# EAGLE library part STM32L4P5CEU6 (library STM32L4P5xx)
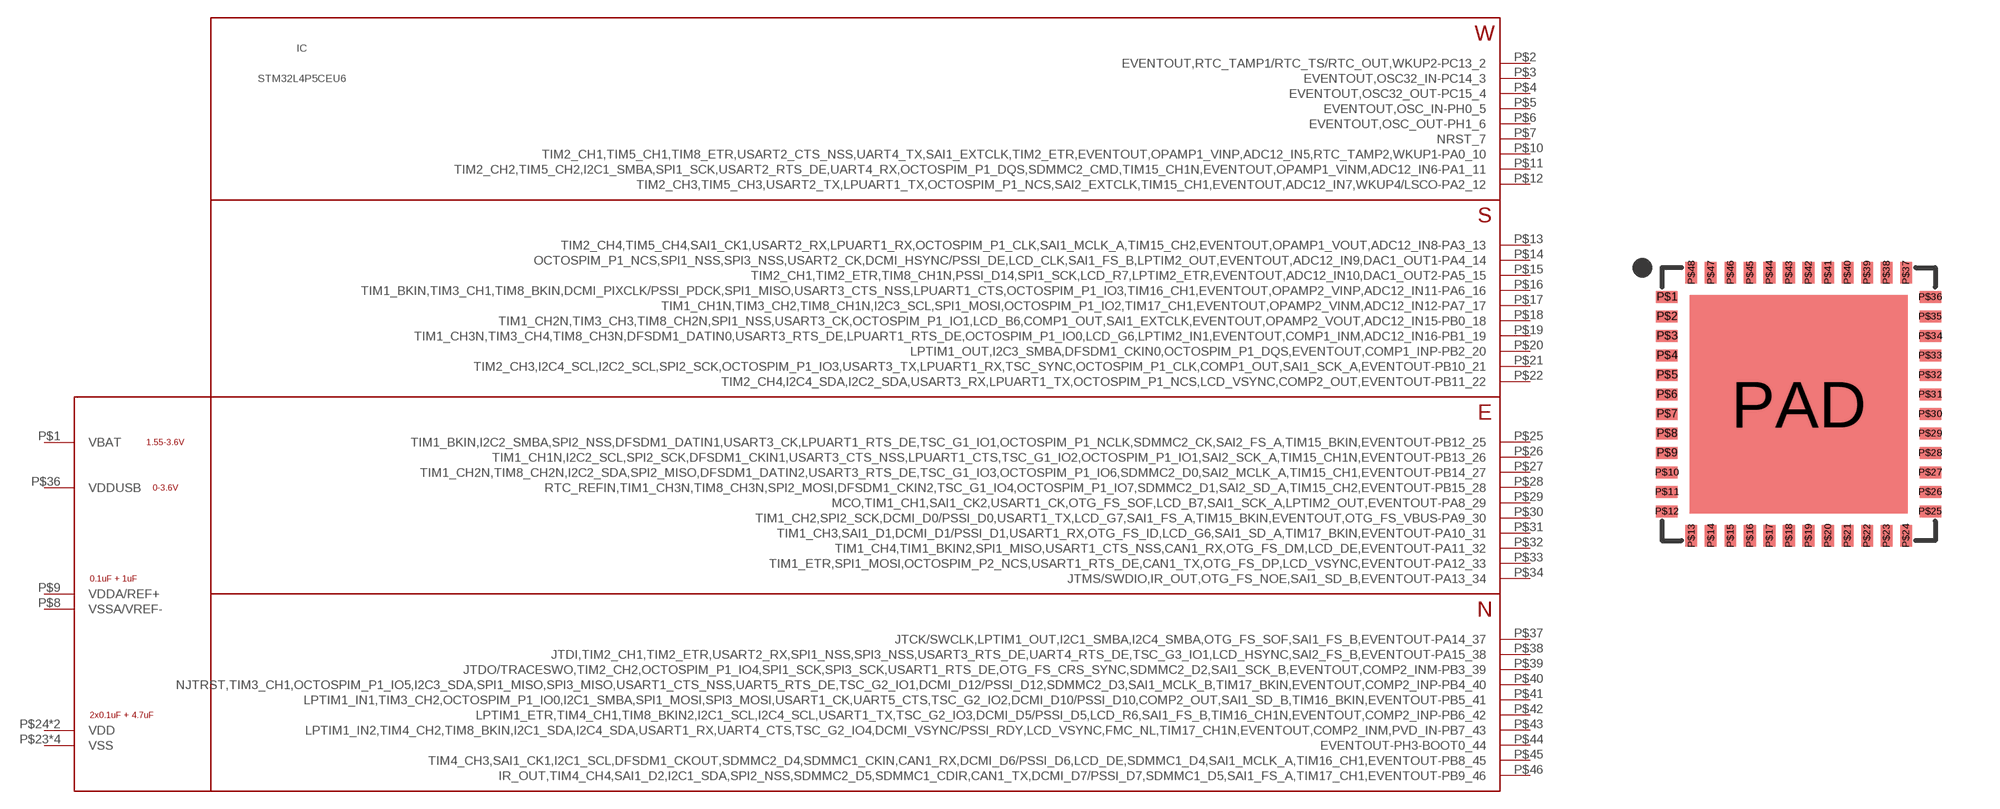
[diagram p0: symbol with the pads of UFQFPN48; footprint UFQFPN48]

Designator prefix IC

## STM32L4P5CEU6  [UFQFPN48]
P$1  VBAT  pwr
P$2  EVENTOUT,RTC_TAMP1/RTC_TS/RTC_OUT,WKUP2-PC13_2
P$3  EVENTOUT,OSC32_IN-PC14_3
P$4  EVENTOUT,OSC32_OUT-PC15_4
P$5  EVENTOUT,OSC_IN-PH0_5
P$6  EVENTOUT,OSC_OUT-PH1_6
P$7  NRST_7  in
P$8  VSSA/VREF-  pwr
P$9  VDDA/REF+  pwr
P$10  TIM2_CH1,TIM5_CH1,TIM8_ETR,USART2_CTS_NSS,UART4_TX,SAI1_EXTCLK,TIM2_ETR,EVENTOUT,OPAMP1_VINP,ADC12_IN5,RTC_TAMP2,WKUP1-PA0_10
P$11  TIM2_CH2,TIM5_CH2,I2C1_SMBA,SPI1_SCK,USART2_RTS_DE,UART4_RX,OCTOSPIM_P1_DQS,SDMMC2_CMD,TIM15_CH1N,EVENTOUT,OPAMP1_VINM,ADC12_IN6-PA1_11
P$12  TIM2_CH3,TIM5_CH3,USART2_TX,LPUART1_TX,OCTOSPIM_P1_NCS,SAI2_EXTCLK,TIM15_CH1,EVENTOUT,ADC12_IN7,WKUP4/LSCO-PA2_12
P$13  TIM2_CH4,TIM5_CH4,SAI1_CK1,USART2_RX,LPUART1_RX,OCTOSPIM_P1_CLK,SAI1_MCLK_A,TIM15_CH2,EVENTOUT,OPAMP1_VOUT,ADC12_IN8-PA3_13
P$14  OCTOSPIM_P1_NCS,SPI1_NSS,SPI3_NSS,USART2_CK,DCMI_HSYNC/PSSI_DE,LCD_CLK,SAI1_FS_B,LPTIM2_OUT,EVENTOUT,ADC12_IN9,DAC1_OUT1-PA4_14
P$15  TIM2_CH1,TIM2_ETR,TIM8_CH1N,PSSI_D14,SPI1_SCK,LCD_R7,LPTIM2_ETR,EVENTOUT,ADC12_IN10,DAC1_OUT2-PA5_15
P$16  TIM1_BKIN,TIM3_CH1,TIM8_BKIN,DCMI_PIXCLK/PSSI_PDCK,SPI1_MISO,USART3_CTS_NSS,LPUART1_CTS,OCTOSPIM_P1_IO3,TIM16_CH1,EVENTOUT,OPAMP2_VINP,ADC12_IN11-PA6_16
P$17  TIM1_CH1N,TIM3_CH2,TIM8_CH1N,I2C3_SCL,SPI1_MOSI,OCTOSPIM_P1_IO2,TIM17_CH1,EVENTOUT,OPAMP2_VINM,ADC12_IN12-PA7_17
P$18  TIM1_CH2N,TIM3_CH3,TIM8_CH2N,SPI1_NSS,USART3_CK,OCTOSPIM_P1_IO1,LCD_B6,COMP1_OUT,SAI1_EXTCLK,EVENTOUT,OPAMP2_VOUT,ADC12_IN15-PB0_18
P$19  TIM1_CH3N,TIM3_CH4,TIM8_CH3N,DFSDM1_DATIN0,USART3_RTS_DE,LPUART1_RTS_DE,OCTOSPIM_P1_IO0,LCD_G6,LPTIM2_IN1,EVENTOUT,COMP1_INM,ADC12_IN16-PB1_19
P$20  LPTIM1_OUT,I2C3_SMBA,DFSDM1_CKIN0,OCTOSPIM_P1_DQS,EVENTOUT,COMP1_INP-PB2_20
P$21  TIM2_CH3,I2C4_SCL,I2C2_SCL,SPI2_SCK,OCTOSPIM_P1_IO3,USART3_TX,LPUART1_RX,TSC_SYNC,OCTOSPIM_P1_CLK,COMP1_OUT,SAI1_SCK_A,EVENTOUT-PB10_21
P$22  TIM2_CH4,I2C4_SDA,I2C2_SDA,USART3_RX,LPUART1_TX,OCTOSPIM_P1_NCS,LCD_VSYNC,COMP2_OUT,EVENTOUT-PB11_22
P$23  VSS  pwr
P$24  VDD  pwr
P$25  TIM1_BKIN,I2C2_SMBA,SPI2_NSS,DFSDM1_DATIN1,USART3_CK,LPUART1_RTS_DE,TSC_G1_IO1,OCTOSPIM_P1_NCLK,SDMMC2_CK,SAI2_FS_A,TIM15_BKIN,EVENTOUT-PB12_25
P$26  TIM1_CH1N,I2C2_SCL,SPI2_SCK,DFSDM1_CKIN1,USART3_CTS_NSS,LPUART1_CTS,TSC_G1_IO2,OCTOSPIM_P1_IO1,SAI2_SCK_A,TIM15_CH1N,EVENTOUT-PB13_26
P$27  TIM1_CH2N,TIM8_CH2N,I2C2_SDA,SPI2_MISO,DFSDM1_DATIN2,USART3_RTS_DE,TSC_G1_IO3,OCTOSPIM_P1_IO6,SDMMC2_D0,SAI2_MCLK_A,TIM15_CH1,EVENTOUT-PB14_27
P$28  RTC_REFIN,TIM1_CH3N,TIM8_CH3N,SPI2_MOSI,DFSDM1_CKIN2,TSC_G1_IO4,OCTOSPIM_P1_IO7,SDMMC2_D1,SAI2_SD_A,TIM15_CH2,EVENTOUT-PB15_28
P$29  MCO,TIM1_CH1,SAI1_CK2,USART1_CK,OTG_FS_SOF,LCD_B7,SAI1_SCK_A,LPTIM2_OUT,EVENTOUT-PA8_29
P$30  TIM1_CH2,SPI2_SCK,DCMI_D0/PSSI_D0,USART1_TX,LCD_G7,SAI1_FS_A,TIM15_BKIN,EVENTOUT,OTG_FS_VBUS-PA9_30
P$31  TIM1_CH3,SAI1_D1,DCMI_D1/PSSI_D1,USART1_RX,OTG_FS_ID,LCD_G6,SAI1_SD_A,TIM17_BKIN,EVENTOUT-PA10_31
P$32  TIM1_CH4,TIM1_BKIN2,SPI1_MISO,USART1_CTS_NSS,CAN1_RX,OTG_FS_DM,LCD_DE,EVENTOUT-PA11_32
P$33  TIM1_ETR,SPI1_MOSI,OCTOSPIM_P2_NCS,USART1_RTS_DE,CAN1_TX,OTG_FS_DP,LCD_VSYNC,EVENTOUT-PA12_33
P$34  JTMS/SWDIO,IR_OUT,OTG_FS_NOE,SAI1_SD_B,EVENTOUT-PA13_34
P$35  VSS  pwr
P$36  VDDUSB  pwr
P$37  JTCK/SWCLK,LPTIM1_OUT,I2C1_SMBA,I2C4_SMBA,OTG_FS_SOF,SAI1_FS_B,EVENTOUT-PA14_37
P$38  JTDI,TIM2_CH1,TIM2_ETR,USART2_RX,SPI1_NSS,SPI3_NSS,USART3_RTS_DE,UART4_RTS_DE,TSC_G3_IO1,LCD_HSYNC,SAI2_FS_B,EVENTOUT-PA15_38
P$39  JTDO/TRACESWO,TIM2_CH2,OCTOSPIM_P1_IO4,SPI1_SCK,SPI3_SCK,USART1_RTS_DE,OTG_FS_CRS_SYNC,SDMMC2_D2,SAI1_SCK_B,EVENTOUT,COMP2_INM-PB3_39
P$40  NJTRST,TIM3_CH1,OCTOSPIM_P1_IO5,I2C3_SDA,SPI1_MISO,SPI3_MISO,USART1_CTS_NSS,UART5_RTS_DE,TSC_G2_IO1,DCMI_D12/PSSI_D12,SDMMC2_D3,SAI1_MCLK_B,TIM17_BKIN,EVENTOUT,COMP2_INP-PB4_40
P$41  LPTIM1_IN1,TIM3_CH2,OCTOSPIM_P1_IO0,I2C1_SMBA,SPI1_MOSI,SPI3_MOSI,USART1_CK,UART5_CTS,TSC_G2_IO2,DCMI_D10/PSSI_D10,COMP2_OUT,SAI1_SD_B,TIM16_BKIN,EVENTOUT-PB5_41
P$42  LPTIM1_ETR,TIM4_CH1,TIM8_BKIN2,I2C1_SCL,I2C4_SCL,USART1_TX,TSC_G2_IO3,DCMI_D5/PSSI_D5,LCD_R6,SAI1_FS_B,TIM16_CH1N,EVENTOUT,COMP2_INP-PB6_42
P$43  LPTIM1_IN2,TIM4_CH2,TIM8_BKIN,I2C1_SDA,I2C4_SDA,USART1_RX,UART4_CTS,TSC_G2_IO4,DCMI_VSYNC/PSSI_RDY,LCD_VSYNC,FMC_NL,TIM17_CH1N,EVENTOUT,COMP2_INM,PVD_IN-PB7_43
P$44  EVENTOUT-PH3-BOOT0_44
P$45  TIM4_CH3,SAI1_CK1,I2C1_SCL,DFSDM1_CKOUT,SDMMC2_D4,SDMMC1_CKIN,CAN1_RX,DCMI_D6/PSSI_D6,LCD_DE,SDMMC1_D4,SAI1_MCLK_A,TIM16_CH1,EVENTOUT-PB8_45
P$46  IR_OUT,TIM4_CH4,SAI1_D2,I2C1_SDA,SPI2_NSS,SDMMC2_D5,SDMMC1_CDIR,CAN1_TX,DCMI_D7/PSSI_D7,SDMMC1_D5,SAI1_FS_A,TIM17_CH1,EVENTOUT-PB9_46
P$47  VSS  pwr
P$48  VDD  pwr
PAD  VSS  pwr

## Footprint UFQFPN48 (pad centres in mm)
smd 0.55 x 0.3: P$1 -3.375,2.75; P$2 -3.375,2.25; P$3 -3.375,1.75; P$4 -3.375,1.25; P$5 -3.375,0.75; P$6 -3.375,0.25; P$7 -3.375,-0.25; P$8 -3.375,-0.75; P$9 -3.375,-1.25; P$10 -3.375,-1.75; P$11 -3.375,-2.25; P$12 -3.375,-2.75; P$25 3.375,-2.75; P$26 3.375,-2.25; P$27 3.375,-1.75; P$28 3.375,-1.25; P$29 3.375,-0.75; P$30 3.375,-0.25; P$31 3.375,0.25; P$32 3.375,0.75; P$33 3.375,1.25; P$34 3.375,1.75; P$35 3.375,2.25; P$36 3.375,2.75
smd 0.3 x 0.55: P$13 -2.75,-3.375; P$14 -2.25,-3.375; P$15 -1.75,-3.375; P$16 -1.25,-3.375; P$17 -0.75,-3.375; P$18 -0.25,-3.375; P$19 0.25,-3.375; P$20 0.75,-3.375; P$21 1.25,-3.375; P$22 1.75,-3.375; P$23 2.25,-3.375; P$24 2.75,-3.375; P$37 2.75,3.375; P$38 2.25,3.375; P$39 1.75,3.375; P$40 1.25,3.375; P$41 0.75,3.375; P$42 0.25,3.375; P$43 -0.25,3.375; P$44 -0.75,3.375; P$45 -1.25,3.375; P$46 -1.75,3.375; P$47 -2.25,3.375; P$48 -2.75,3.375
smd 5.6 x 5.6: PAD 0,0